# EAGLE library part 7BD9BY (library i2c_level_shifter)
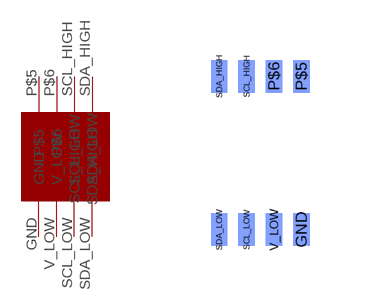
[diagram p0: symbol with the pads of SMD; footprint SMD]

Designator prefix IC

## 7BD9BYSMD_BOTTOM  [SMD]
GND  GND
P$5  P$5
P$6  P$6
SCL_HIGH  SCL_HIGH
SCL_LOW  SCL_LOW
SDA_HIGH  SDA_HIGH
SDA_LOW  SDA_LOW
V_LOW  V_LOW

## Footprint SMD (pad centres in mm)
smd 0.406 x 0.813 bottom: GND 2.438,-0.508; P$5 2.438,3.327; P$6 1.753,3.327; SCL_HIGH 1.067,3.327; SCL_LOW 1.067,-0.508; SDA_HIGH 0.381,3.327; SDA_LOW 0.381,-0.508; V_LOW 1.753,-0.508